# Altium schematic symbol library MountingHoles.SchLib: 1 symbol
Pins are listed as number, name and electrical type; pins without a type are passive.

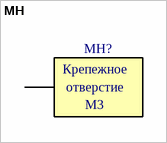
[diagram p0: symbol MH]

## MH
designator MH?  (no BOM)
Mounting Hole, generic; Screw: M3
footprint MH_M3 (Mounting Hole M3 with 8 vias)
pins: 1
text: Крепежное; отверстие